# EAGLE library part A4988 (library A4988)
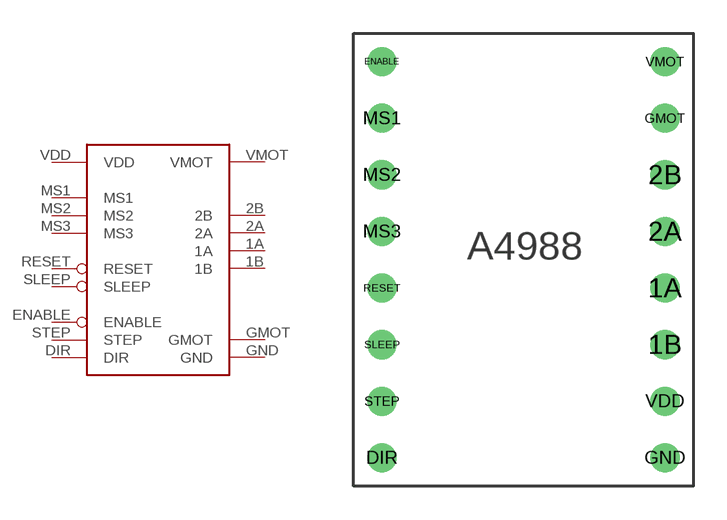
[diagram p0: symbol with the pads of A4988; footprint A4988]

Designator prefix -

## A4988  [A4988]
1A  1A  out
1B  1B  out
2A  2A  out
2B  2B  out
DIR  DIR  in
ENABLE  ENABLE  in
GMOT  GMOT
GND  GND
MS1  MS1
MS2  MS2
MS3  MS3
RESET  RESET  in
SLEEP  SLEEP  in
STEP  STEP  in
VDD  VDD
VMOT  VMOT

## Footprint A4988 (pad centres in mm)
drill 0.8: 1A 6.35,-1.27; 1B 6.35,-3.81; 2A 6.35,1.27; 2B 6.35,3.81; DIR -6.35,-8.89; ENABLE -6.35,8.89; GMOT 6.35,6.35; GND 6.35,-8.89; MS1 -6.35,6.35; MS2 -6.35,3.81; MS3 -6.35,1.27; RESET -6.35,-1.27; SLEEP -6.35,-3.81; STEP -6.35,-6.35; VDD 6.35,-6.35; VMOT 6.35,8.89